# EAGLE library part ADM485 (library Misaka-IC)
5V RS-485 Transceiver Data rate: 5Mbps Supply voltage: 5V
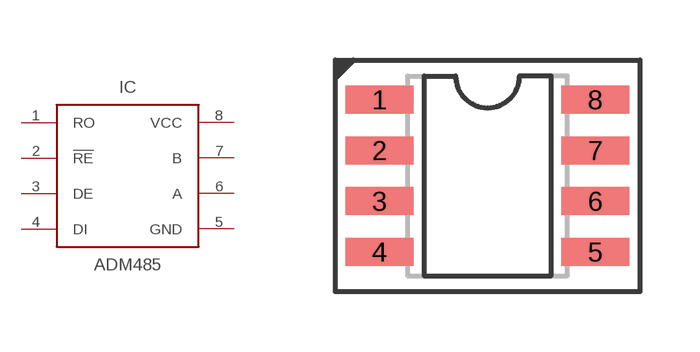
[diagram p3: symbol with the pads of SO-8; footprint SO-8]

Designator prefix IC

## ADM485ARZ  [SO-8]
1  RO  out
2  !RE  in
3  DE  in
4  DI  in
5  GND  pwr
6  A
7  B
8  VCC  pwr

## Footprint SO-8 (pad centres in mm)
Small-Outline Integrated Circuit 150 mil body
smd 1.7 x 0.7: 1 -2.7,1.905; 2 -2.7,0.635; 3 -2.7,-0.635; 4 -2.7,-1.905; 5 2.7,-1.905; 6 2.7,-0.635; 7 2.7,0.635; 8 2.7,1.905